# Altium schematic symbol library EPS.SchLib: 2 symbols
Pins are listed as number, name and electrical type; pins without a type are passive.

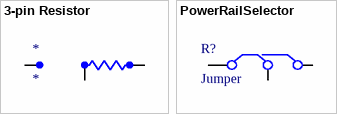
[diagram p0: symbols 3-pin Resistor to PowerRailSelector]

## 3-pin Resistor
designator *
pins: 1, 2, 3

## PowerRailSelector
designator R?, comment Jumper
footprint VSH-RCZ1005orRCZ0505 (Chip Resistor, 2-Leads, Body 2.67x1.27mm, IPC Medium Density)
footprint SKP-RMCF1210orRMCF2010 (Chip Resistor, 2-Leads, Body 2.67x1.27mm, IPC Medium Density)
pins: 1, 2, 3